# Altium schematic symbol library IC_LM285.Schlib: 1 symbol
Pins are listed as number, name and electrical type; pins without a type are passive.

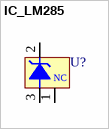
[diagram p0: symbol IC_LM285]

## IC_LM285
designator U?
Micropower Voltage Reference Diode
pins: 1 NC, 2 V+, 3 V-